# EAGLE library part ATTINY85 (library attiny85)
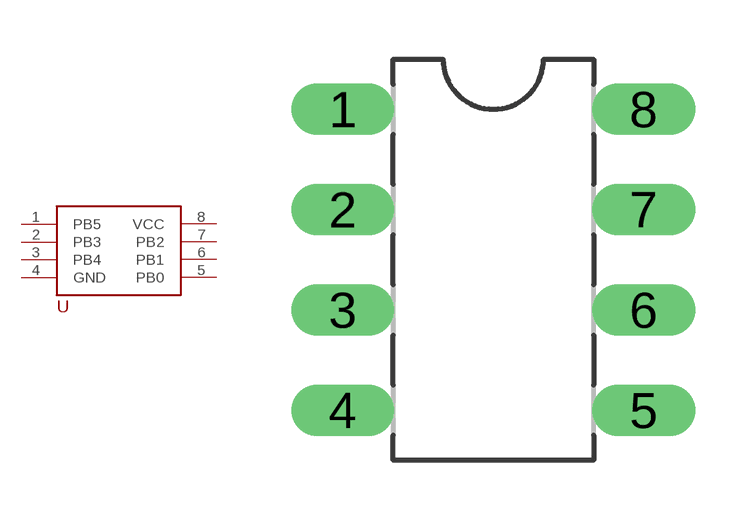
[diagram p0: symbol with the pads of DIP8; footprint DIP8]

Designator prefix -

## ATTINY85  [DIP8]
1  PB5
2  PB3
3  PB4
4  GND
5  PB0
6  PB1
7  PB2
8  VCC

## Footprint DIP8 (pad centres in mm)
drill 0.8 long: 1 -3.81,3.81; 2 -3.81,1.27; 3 -3.81,-1.27; 4 -3.81,-3.81; 5 3.81,-3.81; 6 3.81,-1.27; 7 3.81,1.27; 8 3.81,3.81